# Altium footprint library qfc.PcbLib: 40 footprints (part 2 of 3)
Each footprint in its own frame and in the unit in brackets; x right, y up, seen from the top. Pads: shape width x height; smd on the part's side, far side on the other; paste and mask are expansions set on the pad; w line width, h text height; cw(c..) or ccw(c..) is an arc to the next point about the centre after c.
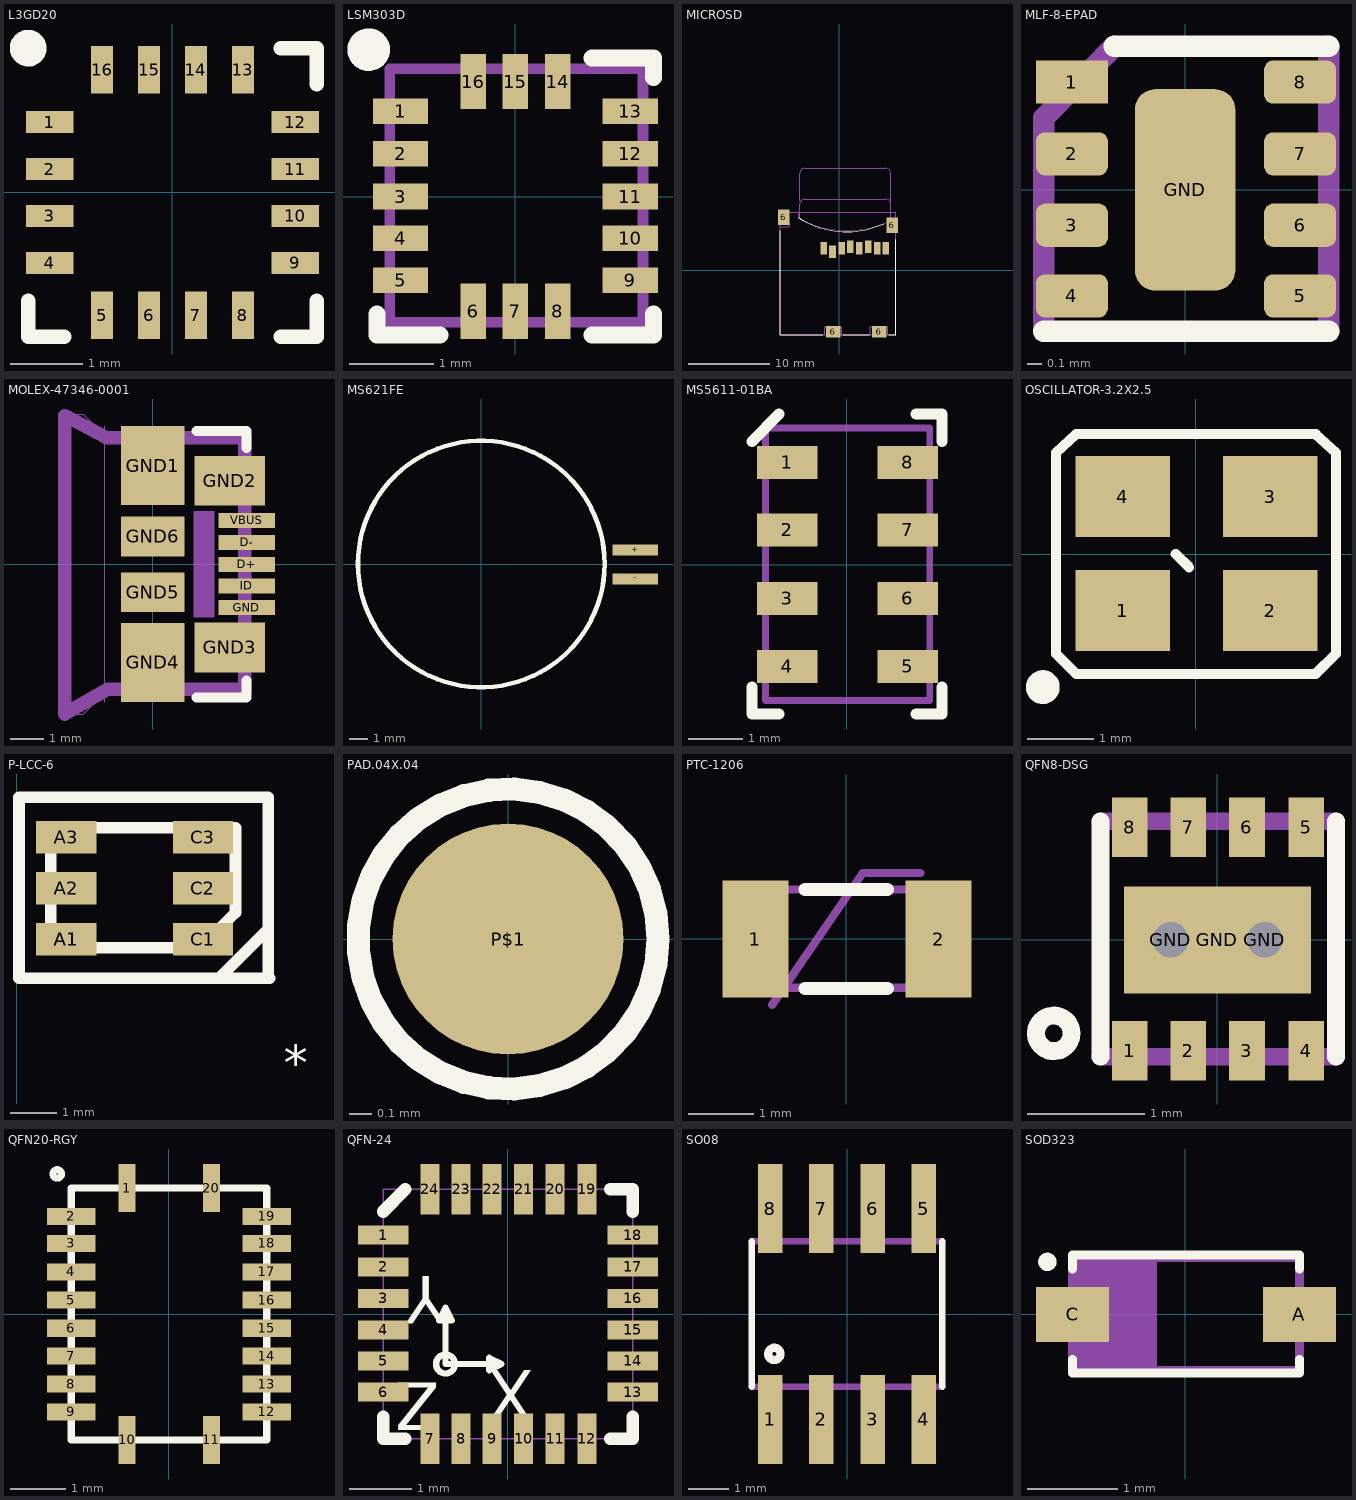
[diagram p1: the footprints below, top view; thin cyan lines are the x and y axes]

## L3GD20 [mil] "4x4x1"
pads (16):
  rect 26x12 smd mask+0: 1(-66.93,38.39) 2(-66.93,12.8) 3(-66.93,-12.8) 4(-66.93,-38.39) 9(66.93,-38.39) 10(66.93,-12.8) 11(66.93,12.8) 12(66.93,38.39)
  rect 12x26 smd mask+0: 5(-38.39,-66.93) 6(-12.8,-66.93) 7(12.8,-66.93) 8(38.39,-66.93) 13(38.39,66.93) 14(12.8,66.93) 15(-12.8,66.93) 16(-38.39,66.93)
Top Overlay:
  circle w10: c-78.74,78.74 r5
  lines w8: -78.74,-59.06 -78.74,-78.74 -59.06,-78.74 ; 59.06,-78.74 78.74,-78.74 78.74,-59.06 ; 59.06,78.74 78.74,78.74 78.74,59.06
3D body: height 38.78, standoff 0, extent -78.74,-78.74 78.74,78.74

## LSM303D [mil] "LGA-16L"
pads (16):
  rect 26x12 smd mask+0: 1(-53.94,40) 2(-53.94,20) 3(-53.94,0) 4(-53.94,-19.69) 5(-53.94,-39.37) 9(54,-39.37) 10(54,-19.69) 11(54,0) 12(54,20) 13(54,40)
  rect 12x26 smd mask+0: 6(-19.68,-53.94) 7(0,-53.94) 8(20,-53.94) 14(20,54) 15(0,54) 16(-19.68,54)
Top Overlay:
  circle w10: c-68.9,69 r5
  lines w8: -64.96,-55.12 -64.96,-64.96 -35.43,-64.96 ; 36,-64.96 65,-64.96 65,-55.12 ; 36,65 65,65 65,56
Mechanical 16:
  lines w5: -59.06,-59.06 60,-59.06 60,60 -59.06,60 -59.06,-59.06
3D body: height -16.54, standoff -56.69, extent -59.06,-59.06 59.05,59.06

## MICROSD [mil] "MICROSD"
pads (12):
  rect 32x60 smd: 1(-76.38,107) 2(-33.07,91) 3(11,107) 4(54,115) 5(97,107) 6(141,115) 7(184,107) 8(227,107)
  rect 56x75 smd: 6(-269.68,258) 6(258,219)
  rect 71x56 smd: 6(-29.53,-299.21) 6(195,-299.21)
Top Overlay:
  lines w5: -287.4,193 -287.4,-314.96 -80.71,-314.96 ; -196.85,256 ccw(c35.12,618.63) 216,228 ; 17,-314.96 145,-314.96 ; 242,-314.96 276,-314.96 276,150
Mechanical 16:
  lines w0: -192.91,252 -192.91,322 cw(c-167.81,321.9) -167.7,347 225,347 cw(c224.5,319.5) 252,319 252,249 ; -192.91,339 -192.91,471 cw(c-167.31,471.4) -167.7,497 225,497 cw(c224.5,469.5) 252,469 252,331
  lines w4: -287.4,-314.96 276,-314.96 276,284 -287.4,284 -287.4,-314.96
  lines w5: -287.4,-314.96 -287.4,213 -244.09,213 -244.09,233 -287.4,233 -287.4,284 -196.85,284 -196.85,256 ccw(c37.61,660) 252,245 256,249 276,249 276,-314.96 237,-314.96 237,-275.59 221,-275.59 221,-314.96 162,-314.96 162,-275.59 150,-275.59 150,-314.96 12,-314.96 12,-275.59 -3.94,-275.59 -3.94,-314.96 -59.06,-314.96 -59.06,-275.59 -70.87,-275.59 -70.87,-314.96 -287.4,-314.96
  text "card IN" at -27.56,308 h30
  text "card OUT" at -51.18,457 h30
3D body: height 72.83, standoff -1.97, extent -275.59,-315.2 275.59,285.2

## MLF-8-EPAD [mil] "MLF-8-EPAD"
pads (9):
  rect 20x12 smd: 1(-31.5,30)
  rrect40% 20x12 smd: 2(-31.5,10) 3(-31.5,-9.84) 4(-31.5,-29.53) 5(32,-29.53) 6(32,-9.84) 7(32,10) 8(32,30)
  rrect40% 28x56 smd: GND(0,0)
Top Overlay:
  lines w6: -39.37,-39.37 40,-39.37 ; -19.68,40 40,40
  text "." at -35,50 h30
Mechanical 16:
  lines w6: -39.37,-39.37 -39.37,20 -19.68,40 ; 40,-39.37 40,40
3D body: height 33.46, standoff 0, extent -39.76,-39.37 39.76,39.37

## MOLEX-47346-0001 [mil]
pads (11):
  rect 67x18 smd: D+(111,0) D-(111,26) GND(111,-51.18) ID(111,-25.59) VBUS(111,52)
  rect 75x94 smd: GND1(0,117) GND4(0,-116.14)
  rect 83x59 smd: GND2(91,99) GND3(91,-98.43)
  rect 75x47 smd: GND5(0,-32.97) GND6(0,33)
Top Overlay:
  lines w12: 52,-157.48 111,-157.48 111,-137.8 ; 52,158 111,158 111,138
Mechanical 8:
  rectangle: 47.98,-62.94 72.98,63.06
Mechanical 16:
  lines w0: -57.09,-163.39 -57.09,164
  lines w1: -106.3,-177.17 -106.3,178 -82.68,178 -55.12,150 107,150 111,146 111,-145.67 107,-149.61 -55.12,-149.61 -82.68,-177.17 -106.3,-177.17
  lines w16: -104.33,-177.17 -104.33,176 -55.12,150 109,150 109,-147.64 -53.15,-147.64 -104.33,-177.17
3D body: height 107.09, standoff -8.66, extent -93.7,-157.09 120.08,157.09

## MS621FE [mm]
pads (2):
  rect 2.5x0.6 smd: +(8.509,0.775) -(8.509,-0.825)
Top Overlay:
  circle w0.254: c0.013,0 r6.8

## MS5611-01BA [mil] "MS5611-01BA"
pads (8):
  rect 44x24 smd: 1(-43.31,74) 2(-43.31,25) 3(-43.31,-24.61) 4(-43.31,-73.82) 5(44,-73.82) 6(44,-24.61) 7(44,25) 8(44,74)
Top Overlay:
  lines w8: -68.9,-88.58 -68.9,-108.27 -49.21,-108.27 ; -68.9,89 -49.21,109 ; 50,-108.27 69,-108.27 69,-88.58 ; 50,109 69,109 69,89
Mechanical 16:
  lines w1: -59.06,-98.43 -59.06,99 60,99 60,-98.43 -59.06,-98.43
  lines w5: -59.06,-98.43 -59.06,99 60,99 60,-98.43 -59.06,-98.43
3D body: height 39.37, standoff -1.97, extent -59.32,-97.97 58.79,98.88

## OSCILLATOR-3.2X2.5 [mil] "OSCILLATOR-3.2X2.5"
pads (4):
  rect 56x48 smd: 1(-43.31,-33.46) 2(44,-33.46) 3(44,34) 4(-43.31,34)
Top Overlay:
  circle w12: c-90.55,-78.74 r4
  lines w6: -11.81,0 -3.94,-7.87 ; -82.68,-59.06 -70.87,-70.87 71,-70.87 83,-59.06 83,60 71,71 -70.87,71 -82.68,60 -82.68,-59.06
Mechanical 16:
  lines w1: -82.68,-59.06 -70.87,-70.87 71,-70.87 83,-59.06 83,60 71,71 -70.87,71 -82.68,60 -82.68,-59.06

## P-LCC-6 [mm]
pads (7):
  rect 1.3x0.7 smd: A1(1.073,-3.652) A1(1.073,-3.652) A2(1.073,-2.552) A3(1.073,-1.452) C1(4.023,-3.652) C2(4.023,-2.552) C3(4.023,-1.452)
Top Overlay:
  lines w0.25: 0.051,-4.496 4.369,-4.496 5.436,-3.429 ; 0.051,-4.496 0.051,-0.584 5.436,-0.584 5.436,-3.429 ; 0.051,-4.496 5.461,-4.496 5.436,-4.47 5.436,-3.429 ; 0.737,-3.835 0.737,-1.245 4.724,-1.245 4.724,-3.073 3.962,-3.835 0.737,-3.835
  text "*" at 5.766,-6.706 h0.76
3D body: height 1.2, standoff 0, extent 1.244,-4.083 3.759,-0.988
3D body: height 1.45, standoff 0, extent 1.27,-4.064 3.734,-1.014
3D body: height 1.5, standoff 0, extent 1.448,-3.836 3.581,-1.244

## PAD.04X.04 [mil]
pads (1):
  rrect100% 40x40 smd: P$1(0,0)
Top Overlay:
  circle w4: c0,0 r26

## PTC-1206 [mil] "PTC-1206"
pads (2):
  rect 40x71 smd: 1(-55.12,0) 2(56,0)
Top Overlay:
  lines w8: -25,-30 25,-30 ; -25,30 25,30
Mechanical 16:
  lines w5: -45,-40 10,40 45,40 ; -59.06,-29.53 -59.06,30 60,30 60,-29.53 -59.06,-29.53
3D body: height 19.68, standoff 0, extent -60,-30 65,30

## QFN8-DSG [mil] "QFN8-DSG"
pads (11):
  rect 12x20 smd: 1(-29.53,-37.4) 2(-9.84,-37.4) 3(10,-37.4) 4(30,-37.4) 5(30,38) 6(10,38) 7(-9.84,38) 8(-29.53,38)
  rect 18x18 hole 12: GND(-15.75,0) GND(16,0)
  rect 63x36 smd: GND(0,0)
Top Overlay:
  circle w6: c-55.12,-31.5 r6
  lines w6: -39.37,-39.37 -39.37,40 ; 40,-39.37 40,40
Mechanical 16:
  lines w6: -39.37,-39.37 40,-39.37 ; -39.37,40 40,40
3D body: height 33.46, standoff 0, extent -39.37,-39.76 39.37,39.76

## QFN20-RGY [mil] "QFN20-RGY"
pads (20):
  rect 12x34 smd: 1(-29.53,89) 10(-29.53,-88.58) 11(30,-88.58) 20(30,89)
  rect 34x12 smd: 2(-68.9,69) 3(-68.9,50) 4(-68.9,30) 5(-68.9,10) 6(-68.9,-9.84) 7(-68.9,-29.53) 8(-68.9,-49.21) 9(-68.9,-68.9) 12(69,-68.9) 13(69,-49.21) 14(69,-29.53) 15(69,-9.84) 16(69,10) 17(69,30) 18(69,50) 19(69,69)
Top Overlay:
  circle w5: c-78.74,99 r3
  lines w5: -68.9,-88.58 -68.9,89 69,89 69,-88.58 -68.9,-88.58
3D body: height 39.37, standoff 0, extent -71.85,-91.53 71.85,91.54

## QFN-24 [mil] "QFN-24"
pads (24):
  rect 32x12 smd: 1(-78.74,50) 2(-78.74,30) 3(-78.74,10) 4(-78.74,-9.84) 5(-78.74,-29.53) 6(-78.74,-49.21) 13(79,-49.21) 14(79,-29.53) 15(79,-9.84) 16(79,10) 17(79,30) 18(79,50)
  rect 12x32 smd: 7(-49.21,-78.74) 8(-29.53,-78.74) 9(-9.84,-78.74) 10(10,-78.74) 11(30,-78.74) 12(50,-78.74) 19(50,79) 20(30,79) 21(10,79) 22(-9.84,79) 23(-29.53,79) 24(-49.21,79)
Top Overlay:
  circle w4: c-39.37,-31.5 r6
  lines w4: -39.37,4 -35.43,-3.94 -43.31,-3.94 -39.37,4 ; -39.37,4 -39.37,-31.5 -3.94,-31.5 ; -3.94,-31.5 -11.81,-27.56 -11.81,-35.43 -3.94,-31.5
  lines w8: -78.74,-64.96 -78.74,-78.74 -64.96,-78.74 ; -78.74,65 -64.96,79 ; 65,-78.74 79,-78.74 79,-64.96 ; 65,79 79,79 79,65
  text "Z" at -43.31,-43.31 h30
  text "Y" at -39.37,24 h30
  text "X" at 16,-35.43 h30
Mechanical 16:
  lines w1: -78.74,-78.74 79,-78.74 79,79 -78.74,79 -78.74,-78.74
3D body: height 35.43, standoff 0, extent -78.82,-78.82 78.82,78.82

## SO08 [mil] "SO08"
pads (8):
  rect 24x87 smd: 1(-75,-103) 2(-25,-103) 3(25,-103) 4(75,-103) 5(75,103) 6(25,103) 7(-25,103) 8(-75,103)
Top Overlay:
  circle w8: c-71,-39 r6
  lines w6: -92.99,-70.98 -92.99,71 ; 93,-70.98 93,71
Mechanical 16:
  rectangle: -82.01,-113.08 -68.01,-73.08
  rectangle: -32.02,-113.08 -18.02,-73.08
  rectangle: 17.98,-113.08 31.98,-73.08
  rectangle: 67.98,-113.08 81.98,-73.08
  rectangle: -82,72.89 -68,112.89
  rectangle: -32,72.89 -18,112.89
  rectangle: 18,72.89 32,112.89
  rectangle: 68,72.89 82,112.89
  lines w6: -92.99,-70.98 93,-70.98 ; -92.99,71 93,71
3D body: height 34.45, standoff -34.98, extent -96.26,-120.8 96.26,120.81

## SOD323 [mil] "SOD323"
pads (2):
  rect 32x24 smd: A(50,0) C(-49.21,0)
Top Overlay:
  circle w4: c-60.24,23 r2
  lines w4: -49.21,-19.69 -49.21,-25.59 50,-25.59 50,-19.69 ; -49.21,20 -49.21,26 50,26 50,20
Mechanical 16:
  rectangle: 52,-7.89 62,7.99
  rectangle: -60.97,-7.87 -49.16,8
  rectangle: -49.21,-24.62 -12.3,24.99
  lines w4: -49.21,-24.61 -49.21,25 50,25 50,-24.61 -49.21,-24.61
3D body: height 35.43, standoff -3.54, extent -49.21,-24.21 49.21,25